# EAGLE library part 74HC4316 (library MUX)
The HC4316 and CD74HCT4316 contain four independent digitally controlled analog switches that use silicon-gate CMOS technology to achieve operating speeds similar to LSTTL with the low power consumption of standard CMOS integrated circuits.
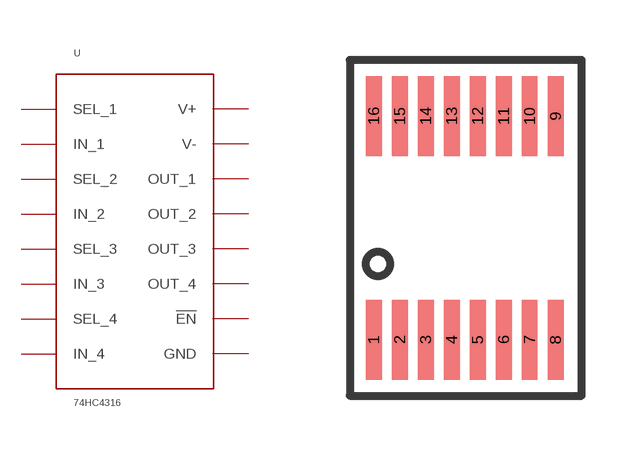
[diagram p1: symbol with the pads of TSSOP-16; footprint TSSOP-16]

Designator prefix U

## 74HC4316PW  [TSSOP-16]
1  OUT_1
2  IN_1
3  IN_2
4  OUT_2
5  SEL_2
6  SEL_3
7  !EN!
8  GND  pwr
9  V-  pwr
10  OUT_3
11  IN_3
12  IN_4
13  OUT_4
14  SEL_4
15  SEL_1
16  V+  pwr

## Footprint TSSOP-16 (pad centres in mm)
smd 0.4 x 2: 1 0,0; 2 0.65,0; 3 1.3,0; 4 1.95,0; 5 2.6,0; 6 3.25,0; 7 3.9,0; 8 4.55,0; 9 4.55,5.6; 10 3.9,5.6; 11 3.25,5.6; 12 2.6,5.6; 13 1.95,5.6; 14 1.3,5.6; 15 0.65,5.6; 16 0,5.6